# Altium integrated library XTR115UA_2K5E4.IntLib: 1 symbol
Pins are listed as number, name and electrical type; pins without a type are passive.

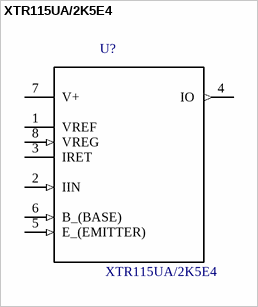
[diagram p0: symbol XTR115UA/2K5E4]

## XTR115UA/2K5E4
designator U?
Current Loop Transmitter 8-Pin SOIC T/R; MF: Texas Instruments; MP: XTR115UA/2K5E4; Price: None; Availability: Unavailable; SnapEDA_Link: https://www.snapeda.com/parts/XTR115UA/2K5E4/Texas%20Instruments/view-part/?ref=snap; Package: None; Value: *
footprint *SOIC127P600X175-8N
pins: 1 VREF, 2 IIN (in), 3 IRET, 4 IO (out), 5 E_(EMITTER) (in), 6 B_(BASE) (in), 7 V+ (power), 8 VREG (in)